# EAGLE library part IR-DRIVER (library my_transistor)
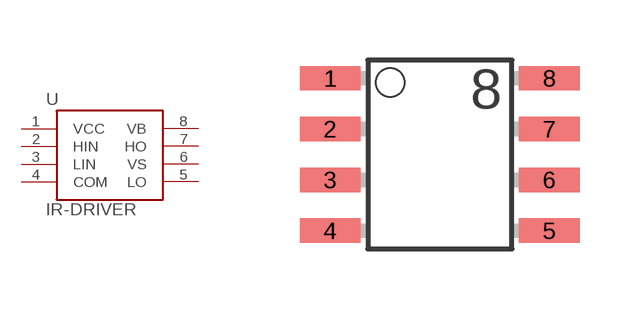
[diagram p0: symbol with the pads of SO-8; footprint SO-8]

Designator prefix U

## IR-DRIVER  [SO-8]
1  VCC
2  HIN
3  LIN
4  COM
5  LO
6  VS
7  HO
8  VB

## Footprint SO-8 (pad centres in mm)
SO 8 small outline
smd 1.524 x 0.61: 1 -2.743,1.905; 2 -2.743,0.635; 3 -2.743,-0.635; 4 -2.743,-1.905; 5 2.743,-1.905; 6 2.743,-0.635; 7 2.743,0.635; 8 2.743,1.905